# Altium schematic symbol library TDA7801.SchLib: 1 symbol
Pins are listed as number, name and electrical type; pins without a type are passive.

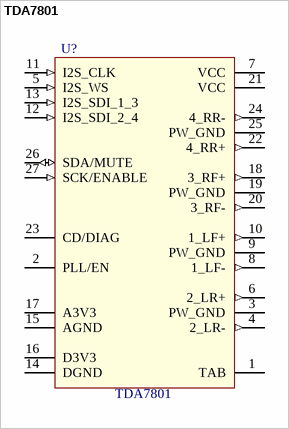
[diagram p0: symbol TDA7801]

## TDA7801
designator U?
TDA7801 (Flexiwatt27); Value: TDA7801
pins: 1 TAB (power) "TAB connection (GND)", 2 PLL/EN "Pll loop filter / ENABLE", 3 PW_GND (power) "Power ground channel 2", 4 2_LR- (out) "Channel 2 (Left Rear) negative output", 5 I2S_WS (in) "Word select (I2S bus, logic input)", 6 2_LR+ (out) "Channel 2 (Left Rear) positive output", 7 VCC (power) "Channel 1 and 2 positive supply", 8 1_LF- (out) "Channel 1 (Left Front) negative output", 9 PW_GND "Power ground channel 1", 10 1_LF+ (out) "Channel 1 (Left Front) positive output", 11 I2S_CLK (in) "Serial clock (I2S bus, logic input)", 12 I2S_SDI_2_4 (in) "Serial data channels 2 and 4 (I2S bus, logic input)", 13 I2S_SDI_1_3 (in) "Serial data channels 1 and 3 (I2S bus, logic input)", 14 DGND (power) "Digital ground", 15 AGND (power) "Analog ground", 16 D3V3 (power) "Digital 3.3 V supply filter", 17 A3V3 (power) "Analog 3.3 V supply filter", 18 3_RF+ (out) "Channel 3 (right front) positive output", 19 PW_GND (power) "Power ground channel 3", 20 3_RF- (out) "Channel 3 (right front) negative output", 21 VCC (power) "Channels 3 and 4 positive supply", 22 4_RR+ (out) "Channel 4 (right rear) positive output", 23 CD/DIAG (oc) "Clip detector and diagnostic output", 24 4_RR- (out) "Channel 4 (right rear) negative output", 25 PW_GND "Power ground channel 4", 26 SDA/MUTE (io) "I2C data/legacy mode mute", 27 SCK/ENABLE (in) "I2C clock/enable legacy mode"